# EAGLE library part BQ297XX (library Bits_library_eagle 9x)
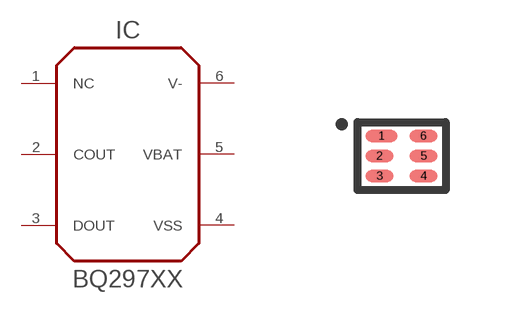
[diagram p82: symbol with the pads of WSON-6; footprint WSON-6]

Designator prefix IC

## BQ297XXWSON6  [WSON-6]
1  NC  nc
2  COUT  pas
3  DOUT  pas
4  VSS  pwr
5  VBAT  pwr
6  V-  pwr

## Footprint WSON-6 (pad centres in mm)
smd 0.8 x 0.3: 1 -0.5,0.5
smd 0.7 x 0.3: 2 -0.55,0; 3 -0.55,-0.5; 4 0.55,-0.5; 5 0.55,0; 6 0.55,0.5